# Altium footprint library XB24.PcbLib: 1 footprints
Each footprint in its own frame and in the unit in brackets; x right, y up, seen from the top. Pads: shape width x height; smd on the part's side, far side on the other; paste and mask are expansions set on the pad; w line width, h text height; cw(c..) or ccw(c..) is an arc to the next point about the centre after c.
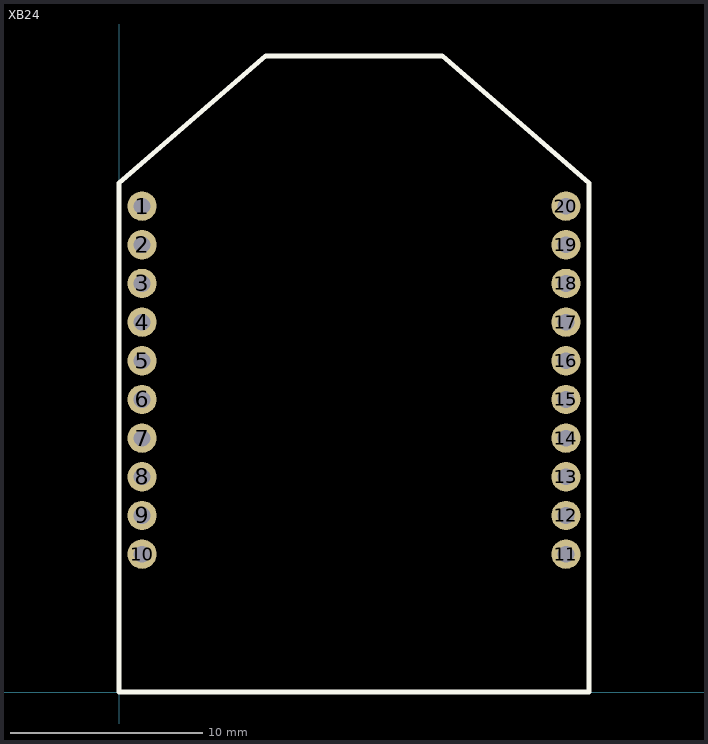
[diagram p0: the footprint, top view; thin cyan lines are the x and y axes]

## XB24 [mil] "XBee 2.4"
height 125
pads (20):
  round 60 hole 34: 1(47,993) 2(47,914) 3(47,835) 4(47,756) 5(47,677) 6(47,598) 7(47,519) 8(47,440) 9(47,361) 10(47,282) 11(913,282) 12(913,361) 13(913,440) 14(913,519) 15(913,598) 16(913,677) 17(913,756) 18(913,835) 19(913,914) 20(913,993)
Top Overlay:
  lines w10: 0,0 960,0 960,1040 660,1300 300,1300 0,1040 0,0
3D body: height 505.04, standoff -146.76, extent 30,-8.43 964.25,1288.42